# EAGLE library part RXD-XXX-KH2 (library linx)
KH2 SERIES RECEIVER / DECODER Source: http://www.linxtechnologies.com .. RXD-xxx-KH2_Data_Guide.pdf
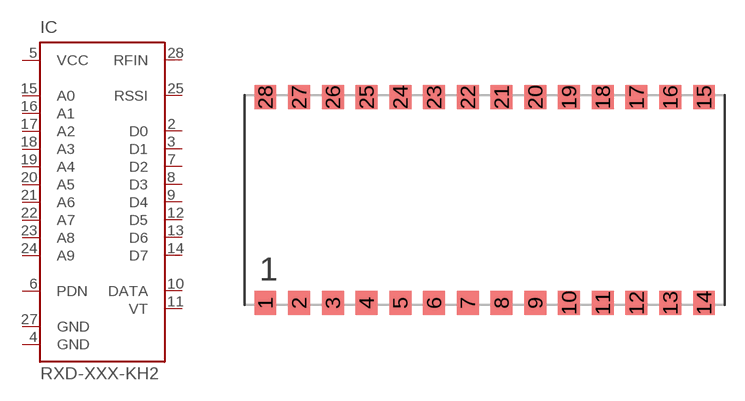
[diagram p2: symbol with the pads of RXD-XXX-KH2; footprint RXD-XXX-KH2]

Designator prefix IC

## RXD-XXX-KH2 (OC_FARNELL: unknown; OC_NEWARK: unknown)  [RXD-XXX-KH2]
2  D0
3  D1
4  GND  pwr
5  VCC  pwr
6  PDN  in
7  D2
8  D3
9  D4
10  DATA  out
11  VT  out
12  D5
13  D6
14  D7
15  A0  in
16  A1  in
17  A2  in
18  A3  in
19  A4  in
20  A5  in
21  A6  in
22  A7  in
23  A8  in
24  A9  in
25  RSSI  pas
27  GND  pwr
28  RFIN  in

## Footprint RXD-XXX-KH2 (pad centres in mm)
RXDxxx-KH2 Source: All Packages.pdf
smd 1.651 x 1.778: 1 -16.51,-7.747; 2 -13.97,-7.747; 3 -11.43,-7.747; 4 -8.89,-7.747; 5 -6.35,-7.747; 6 -3.81,-7.747; 7 -1.27,-7.747; 8 1.27,-7.747; 9 3.81,-7.747; 10 6.35,-7.747; 11 8.89,-7.747; 12 11.43,-7.747; 13 13.97,-7.747; 14 16.51,-7.747; 15 16.51,7.747; 16 13.97,7.747; 17 11.43,7.747; 18 8.89,7.747; 19 6.35,7.747; 20 3.81,7.747; 21 1.27,7.747; 22 -1.27,7.747; 23 -3.81,7.747; 24 -6.35,7.747; 25 -8.89,7.747; 26 -11.43,7.747; 27 -13.97,7.747; 28 -16.51,7.747